# Altium schematic symbol library SCH - LOGIC - 74AHCX1G14-5.SCHLIB: 1 symbol
Pins are listed as number, name and electrical type; pins without a type are passive.

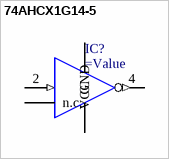
[diagram p0: symbol 74AHCX1G14-5]

## 74AHCX1G14-5
designator IC?
Inverting Schmitt trigger for 2 V to 5.5 V
pins: 1 n.c., 2 A (in) "data input", 3 GND (power), 4 ~{Y} (out) "data output", 5 VCC (power)